# EAGLE library part REF5025AID (library EagleParts)
Low-Noise, Very Low Drift, Precision VOLTAGE REFERENCE
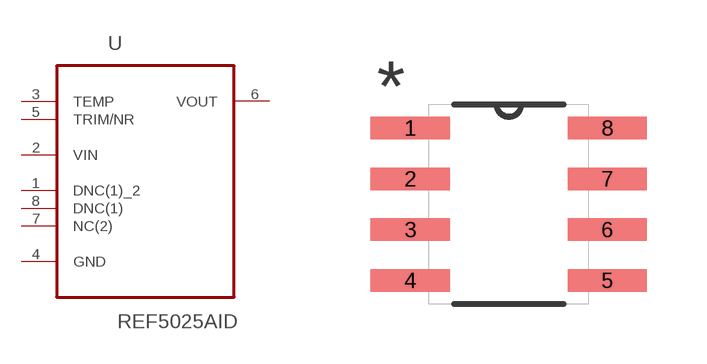
[diagram p4: symbol with the pads of SOIC127P600X175-8N; footprint SOIC127P600X175-8N]

Designator prefix U

## REF5025AID (MPN: REF5025AID; OC_FARNELL: 1439622; OC_NEWARK: 50M8895; PACKAGE: SOIC-8; SUPPLIER: Texas Instruments)  [SOIC127P600X175-8N]
1  DNC(1)_2  nc
2  VIN  in
3  TEMP  in
4  GND  pas
5  TRIM/NR  in
6  VOUT  out
7  NC(2)  nc
8  DNC(1)  nc

## Footprint SOIC127P600X175-8N (pad centres in mm)
smd 1.981 x 0.559: 1 -2.464,1.905; 2 -2.464,0.635; 3 -2.464,-0.635; 4 -2.464,-1.905; 5 2.464,-1.905; 6 2.464,-0.635; 7 2.464,0.635; 8 2.464,1.905